# Altium footprint library HCPL-0601-500E.PcbLib: 1 footprints
Each footprint in its own frame and in the unit in brackets; x right, y up, seen from the top. Pads: shape width x height; smd on the part's side, far side on the other; paste and mask are expansions set on the pad; w line width, h text height; cw(c..) or ccw(c..) is an arc to the next point about the centre after c.
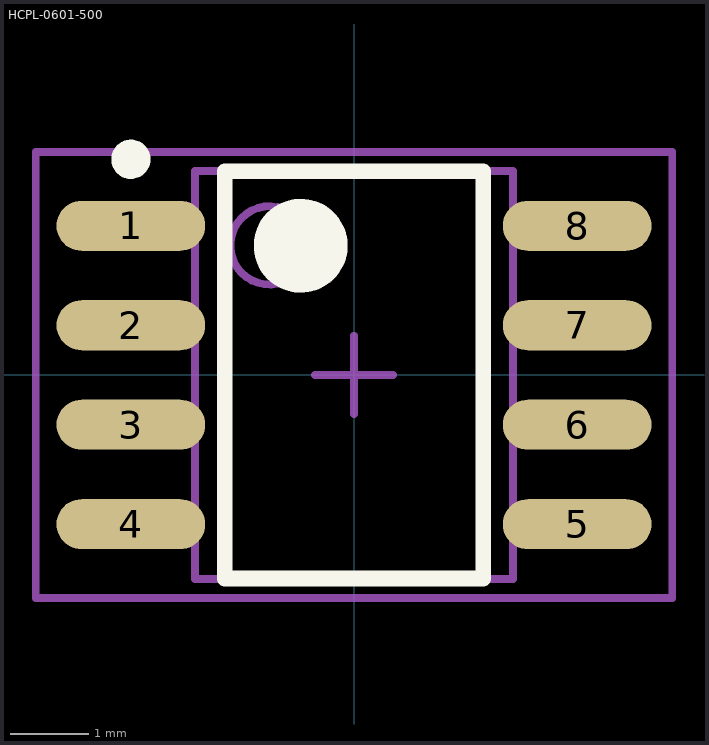
[diagram p0: the footprint, top view; thin cyan lines are the x and y axes]

## HCPL-0601-500 [mm] "AVAGO TECHNOLOGIES - HCPL-0601-500E - OPTOCOUPLER, SMD, 10MBD"
height 3.302
pads (8):
  oval 1.9x0.64 smd: 1(-2.85,1.905) 2(-2.85,0.635) 3(-2.85,-0.635) 4(-2.85,-1.905) 5(2.85,-1.905) 6(2.85,-0.635) 7(2.85,0.635) 8(2.85,1.905)
Top Overlay:
  circle w0.25: c-2.85,2.755 r0.125
  circle w0.6: c-0.681,1.651 r0.3
  lines w0.2: -1.651,-2.6 -1.651,2.6 1.651,2.6 1.651,-2.6 -1.651,-2.6
Mechanical 13:
  circle w0.1: c-1.08,1.655 r0.5
  lines w0.1: -2.03,-2.605 -2.03,2.605 2.03,2.605 2.03,-2.605 -2.03,-2.605
Mechanical 15:
  lines w0.1: -0.5,0 0.5,0 ; 0,-0.5 0,0.5 ; -4.064,-2.85 -4.064,2.85 4.064,2.85 4.064,-2.85 -4.064,-2.85
3D body: height 3.3, standoff 0.1, extent -2.03,-2.605 2.03,2.605